# EAGLE library part MCP3201-CI/SN (library MCP3201-CI_SN)
12Bit A/D Converter
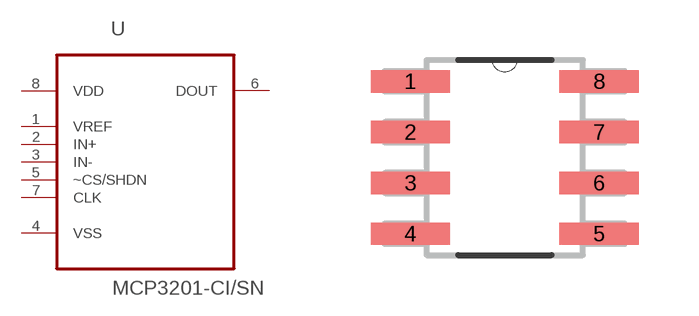
[diagram p0: symbol with the pads of SOIC127P600X175-8N; footprint SOIC127P600X175-8N]

Designator prefix -

## MCP3201-CI/SN (Availability: Unavailable; Description: Single Channel SPI Serial Interface 2.7 V 12-Bit A/D Converter SMT - SOIC-8; MF: Microchip; MP: MCP3201-CI/SN; Package: SOIC-8 Microchip; Price: None)  [SOIC127P600X175-8N]
1  VREF  in
2  IN+  in
3  IN-  in
4  VSS  pwr
5  ~CS/SHDN  in
6  DOUT  out
7  CLK  in
8  VDD  pwr

## Footprint SOIC127P600X175-8N (pad centres in mm)
smd 1.981 x 0.559: 1 -2.362,1.905; 2 -2.362,0.635; 3 -2.362,-0.635; 4 -2.362,-1.905; 5 2.362,-1.905; 6 2.362,-0.635; 7 2.362,0.635; 8 2.362,1.905